# Altium footprint library L_0805_2012.PcbLib: 1 footprints
Each footprint in its own frame and in the unit in brackets; x right, y up, seen from the top. Pads: shape width x height; smd on the part's side, far side on the other; paste and mask are expansions set on the pad; w line width, h text height; cw(c..) or ccw(c..) is an arc to the next point about the centre after c.
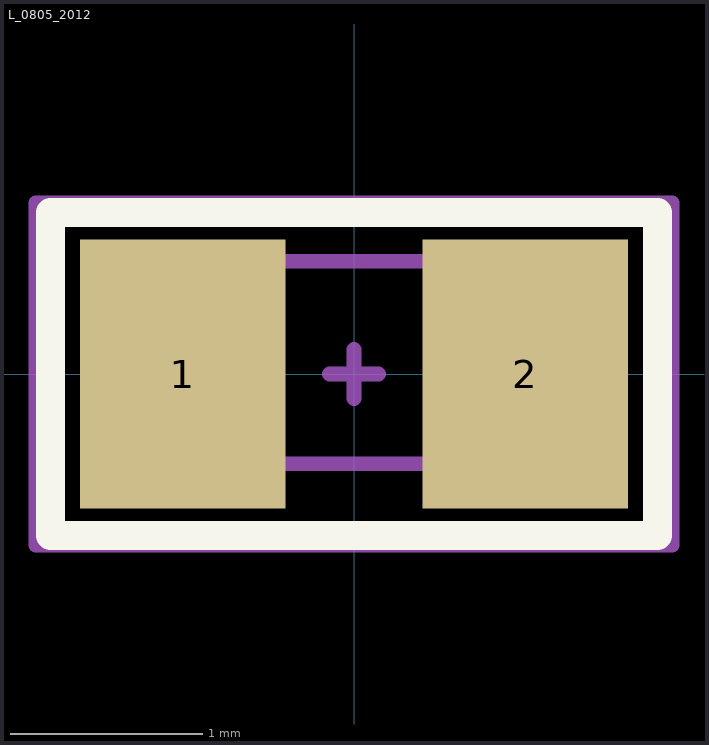
[diagram p0: the footprint, top view; thin cyan lines are the x and y axes]

## L_0805_2012 [mil]
pads (2):
  rect 42x55 smd: 1(-35,0) 2(35,0)
Top Overlay:
  lines w6: -62,-33 62,-33 62,33 -62,33 -62,-33
Mechanical 13:
  lines w3: -39.37,-18.33 39.37,-18.33 39.37,23 -39.37,23 -39.37,-18.33
Mechanical 15:
  lines w3: -5,0 5,0 ; 0,-5 0,5 ; -65,-35 65,-35 65,35 -65,35 -65,-35
Mechanical 17:
  text "'.Designator'" at -43,-11 h10
Mechanical 19:
  text "'.Comment'" at -43,-11 h10
3D body "User Library-INDC0805.stp.step": height 49.61, standoff 0.39, extent -39.37,-18.33 39.37,23